# EAGLE library part JTAG-ARM (library microbuilder)
20 Pin JTAG Connector For use with ARM7, and ARM9. Supported by some Cortex M3 boards with SWJ-DP interfaces (dual SWP/JTAG support). 4UConnector: 03556
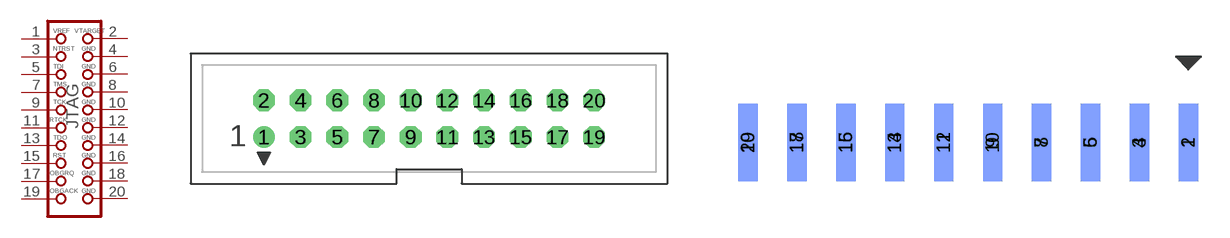
[diagram p1: symbol with the pads of JTAG-ARM; footprints JTAG-ARM, MOLEX20_RIGHTANGLE]

Designator prefix JTAG

## JTAG-ARM  [JTAG-ARM]
1  1  pas
2  2  pas
3  3  pas
4  4  pas
5  5  pas
6  6  pas
7  7  pas
8  8  pas
9  9  pas
10  10  pas
11  11  pas
12  12  pas
13  13  pas
14  14  pas
15  15  pas
16  16  pas
17  17  pas
18  18  pas
19  19  pas
20  20  pas

## JTAG-ARMEDGE  [MOLEX20_RIGHTANGLE]
Pads as for JTAG-ARM

## Footprint JTAG-ARM (pad centres in mm)
20 Pin JTAG Connector (ARM7, ARM9)
drill 1 round: 1 -11.43,-1.27
drill 1 octagon: 2 -11.43,1.27; 3 -8.89,-1.27; 4 -8.89,1.27; 5 -6.35,-1.27; 6 -6.35,1.27; 7 -3.81,-1.27; 8 -3.81,1.27; 9 -1.27,-1.27; 10 -1.27,1.27; 11 1.27,-1.27; 12 1.27,1.27; 13 3.81,-1.27; 14 3.81,1.27; 15 6.35,-1.27; 16 6.35,1.27; 17 8.89,-1.27; 18 8.89,1.27; 19 11.43,-1.27; 20 11.43,1.27

## Footprint MOLEX20_RIGHTANGLE (pad centres in mm)
Molex 20 Pin Header Footprint designed to mount connector on edge of board, one row on top layer, one row on bottom layer
smd 1 x 4: 1 11.43,0; 3 8.89,0; 5 6.35,0; 7 3.81,0; 9 1.27,0; 11 -1.27,0; 13 -3.81,0; 15 -6.35,0; 17 -8.89,0; 19 -11.43,0
smd 1 x 4 bottom: 2 11.43,0; 4 8.89,0; 6 6.35,0; 8 3.81,0; 10 1.27,0; 12 -1.27,0; 14 -3.81,0; 16 -6.35,0; 18 -8.89,0; 20 -11.43,0